# Altium schematic symbol library DAC7811IDGSR.SchLib: 1 symbol
Pins are listed as number, name and electrical type; pins without a type are passive.

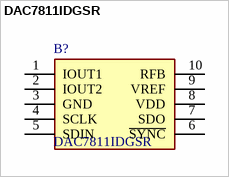
[diagram p0: symbol DAC7811IDGSR]

## DAC7811IDGSR
designator B?
12-bit, single-channel, serial input multiplying DAC with 0.2us settling time; Manufacturer_Name: Texas Instruments; Geometry.Height: 1.1mm; Mouser Part Number: 595-DAC7811IDGSR; Mouser Price/Stock: https://www.mouser.co.uk/ProductDetail/Texas-Instruments/DAC7811IDGSR?qs=rNOSrj6uCs1lDhXFni4UFg%3D%3D; Manufacturer_Part_Number: DAC7811IDGSR; Datasheet Link: http://www.ti.com/lit/gpn/dac7811
footprint SOP50P490X110-10N
pins: 1 IOUT1, 2 IOUT2, 3 GND, 4 SCLK, 5 SDIN, 6 ~{SYNC}, 7 SDO, 8 VDD, 9 VREF, 10 RFB